# Altium footprint library ADF4350_QFN32.PcbLib: 21 footprints (part 1 of 2)
Each footprint in its own frame and in the unit in brackets; x right, y up, seen from the top. Pads: shape width x height; smd on the part's side, far side on the other; paste and mask are expansions set on the pad; w line width, h text height; cw(c..) or ccw(c..) is an arc to the next point about the centre after c.
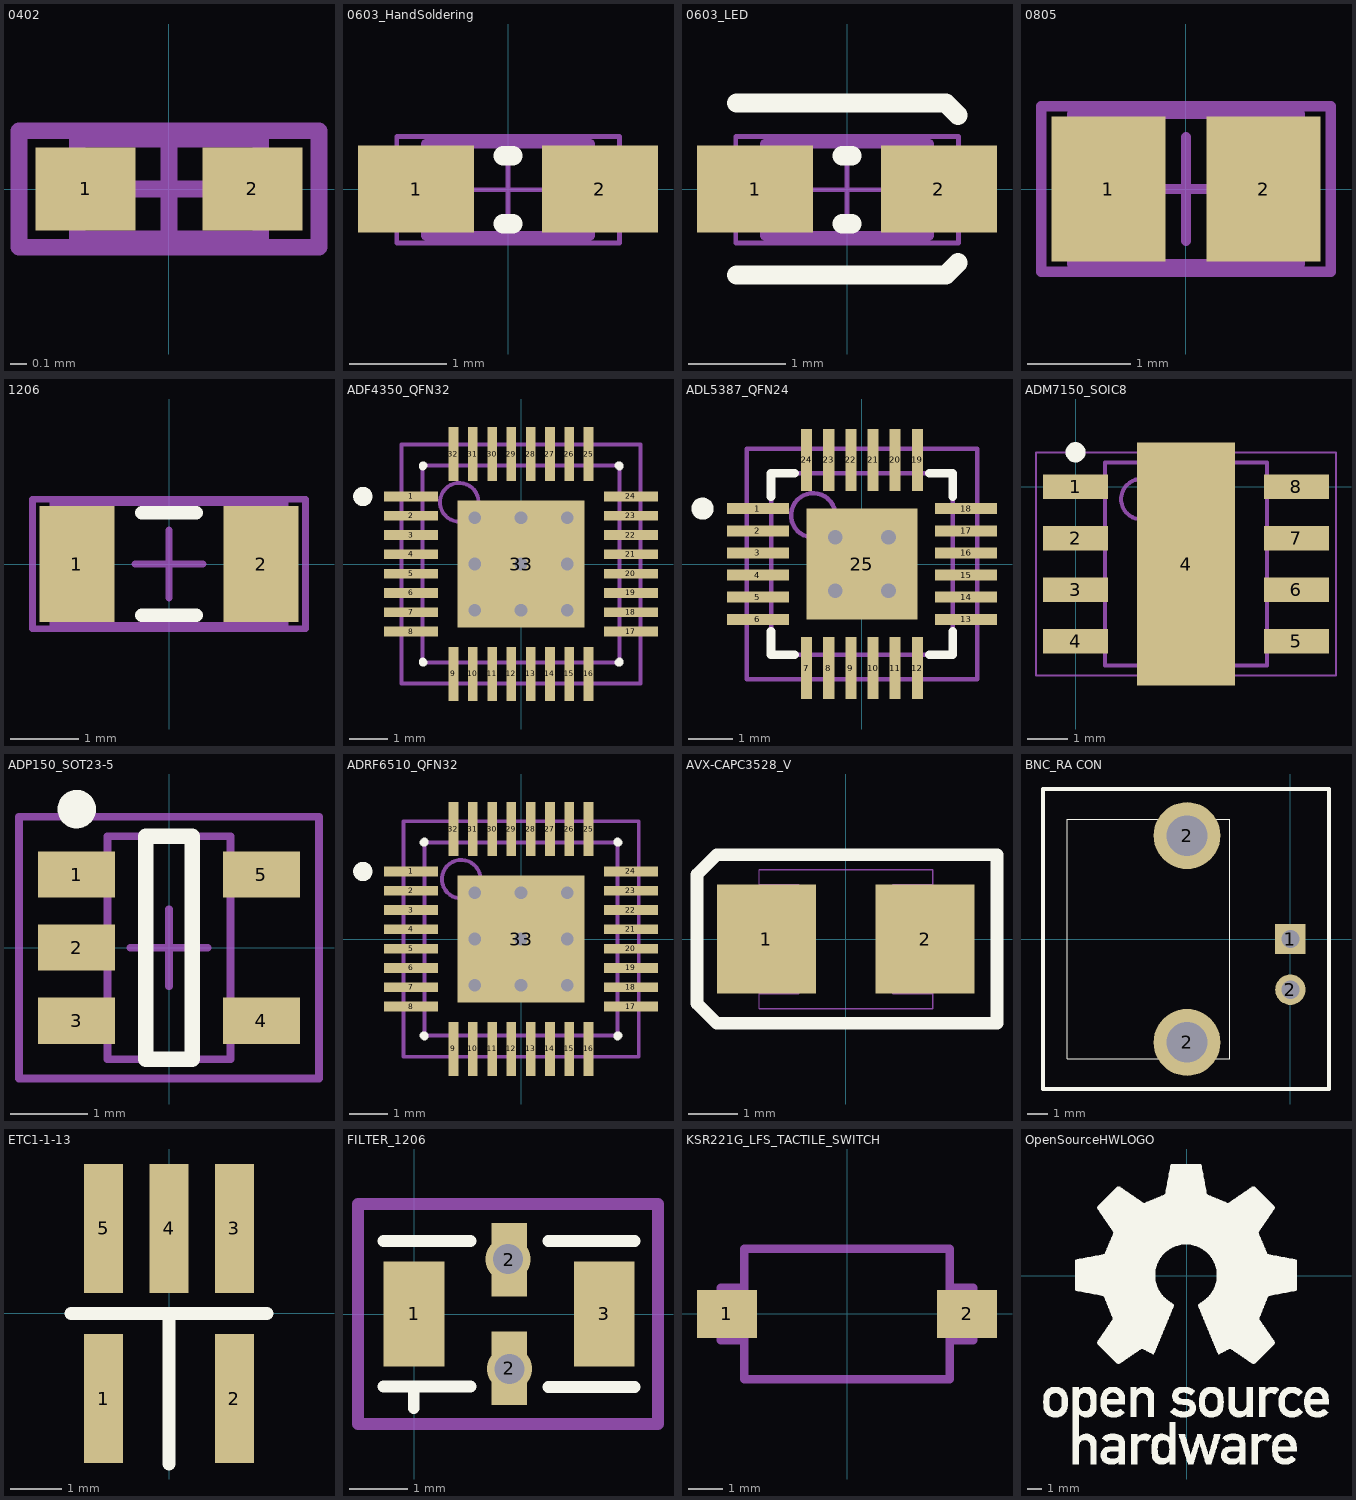
[diagram p0: the footprints below, top view; thin cyan lines are the x and y axes]

## 0402 [mm] "SMD, Body 1.0x0.5mm, IPC High Density"
height 1.3
pads (2):
  rect 0.6x0.5 smd: 1(-0.5,0) 2(0.5,0)
Mechanical 13:
  lines w0.1: -0.55,-0.3 0.55,-0.3 0.55,0.3 -0.55,0.3 -0.55,-0.3
Mechanical 15:
  lines w0.1: -0.3,0 0.3,0 ; 0,-0.3 0,0.3 ; -0.9,-0.35 0.9,-0.35 0.9,0.35 -0.9,0.35 -0.9,-0.35
3D body: height 1.3, standoff 0, extent -0.55,-0.3 0.55,0.3

## 0603_HandSoldering [mm] "SMD, 2-Leads, Body 1.6x0.8mm, IPC Medium Density"
height 0.6
pads (2):
  rect 1.2x0.9 smd: 1(-0.954,0) 2(0.946,0)
Top Overlay:
  lines w0.2: -0.053,-0.358 0.047,-0.358 ; -0.053,0.342 0.047,0.342
Mechanical 13:
  lines w0.1: -0.853,-0.483 -0.853,0.467 0.847,0.467 0.847,-0.483 -0.853,-0.483
Mechanical 15:
  lines w0.05: -0.478,-0.008 0.472,-0.008 ; -0.003,-0.483 -0.003,0.467 ; -1.153,-0.558 -1.153,0.542 1.147,0.542 1.147,-0.558 -1.153,-0.558
3D body: height 0.6, standoff 0, extent 0.578,-0.482 0.847,0.467
3D body: height 0.6, standoff 0, extent -0.583,-0.482 0.578,0.467
3D body: height 0.6, standoff 0, extent -0.852,-0.482 -0.583,0.467

## 0603_LED [mm] "SMD LED, Body 1.6x0.8mm"
height 0.6
pads (2):
  rect 1.2x0.9 smd: 1(-0.954,0) 2(0.946,0)
Top Overlay:
  lines w0.2: -1.143,-0.889 1.016,-0.889 1.143,-0.762 ; -1.143,0.889 1.016,0.889 1.143,0.762 ; -0.053,-0.358 0.047,-0.358 ; -0.053,0.342 0.047,0.342
Mechanical 13:
  lines w0.1: -0.853,-0.483 -0.853,0.467 0.847,0.467 0.847,-0.483 -0.853,-0.483
Mechanical 15:
  lines w0.05: -0.478,-0.008 0.472,-0.008 ; -0.003,-0.483 -0.003,0.467 ; -1.153,-0.558 -1.153,0.542 1.147,0.542 1.147,-0.558 -1.153,-0.558
3D body: height 0.6, standoff 0, extent 0.578,-0.482 0.847,0.467
3D body: height 0.6, standoff 0, extent -0.583,-0.482 0.578,0.467
3D body: height 0.6, standoff 0, extent -0.852,-0.482 -0.583,0.467

## 0805 [mm] "SMD, Body 2.0x1.3mm, IPC High Density"
height 1.4
pads (2):
  rect 1.1x1.4 smd: 1(-0.75,0) 2(0.75,0)
Mechanical 13:
  lines w0.1: -1.1,-0.725 -1.1,0.725 1.1,0.725 1.1,-0.725 -1.1,-0.725
Mechanical 15:
  lines w0.1: -0.5,0 0.5,0 ; 0,-0.5 0,0.5 ; -1.4,-0.8 -1.4,0.8 1.4,0.8 1.4,-0.8 -1.4,-0.8
3D body: height 1.4, standoff 0, extent -1.1,-0.725 1.1,0.725

## 1206 [mm] "SMD, Body 3.2x1.6mm, IPC High Density"
height 1.3
pads (2):
  rect 1.1x1.7 smd: 1(-1.35,0) 2(1.35,0)
Top Overlay:
  lines w0.2: -0.4,-0.75 0.4,-0.75 ; -0.4,0.75 0.4,0.75
Mechanical 13:
  lines w0.1: -1.7,-0.9 -1.7,0.9 1.7,0.9 1.7,-0.9 -1.7,-0.9
Mechanical 15:
  lines w0.1: -0.5,0 0.5,0 ; 0,-0.5 0,0.5 ; -2,-0.95 -2,0.95 2,0.95 2,-0.95 -2,-0.95
3D body: height 1.3, standoff 0, extent -1.7,-0.9 1.7,0.9

## ADF4350_QFN32 [mm] "QFN, 32-Leads, Body 5,1x5,1mm (max), Pitch 0,50mm, IPC Medium Density"
height 0.8
pads (33):
  rect 1.4x0.25 smd: 1(-2.85,1.75) 2(-2.85,1.25) 3(-2.85,0.75) 4(-2.85,0.25) 5(-2.85,-0.25) 6(-2.85,-0.75) 7(-2.85,-1.25) 8(-2.85,-1.75) 17(2.85,-1.75) 18(2.85,-1.25) 19(2.85,-0.75) 20(2.85,-0.25) 21(2.85,0.25) 22(2.85,0.75) 23(2.85,1.25) 24(2.85,1.75)
  rect 0.25x1.4 smd: 9(-1.75,-2.85) 10(-1.25,-2.85) 11(-0.75,-2.85) 12(-0.25,-2.85) 13(0.25,-2.85) 14(0.75,-2.85) 15(1.25,-2.85) 16(1.75,-2.85) 25(1.75,2.85) 26(1.25,2.85) 27(0.75,2.85) 28(0.25,2.85) 29(-0.25,2.85) 30(-0.75,2.85) 31(-1.25,2.85) 32(-1.75,2.85)
  rect 3.3x3.3 smd: 33(0,0)
via -1.2,1.2 diameter 0.66 hole 0.33
via 0,1.2 diameter 0.66 hole 0.33
via 1.2,1.2 diameter 0.66 hole 0.33
via -1.2,0 diameter 0.66 hole 0.33
via 0,0 diameter 0.66 hole 0.33
via 1.2,0 diameter 0.66 hole 0.33
via -1.2,-1.2 diameter 0.66 hole 0.33
via 0,-1.2 diameter 0.66 hole 0.33
via 1.2,-1.2 diameter 0.66 hole 0.33
Top Overlay:
  circle w0.25: c-4.1,1.75 r0.125
  lines w0.2: -2.55,-2.525 -2.55,-2.55 -2.525,-2.55 ; -2.55,2.525 -2.55,2.55 -2.525,2.55 ; 2.525,-2.55 2.55,-2.55 2.55,-2.525 ; 2.525,2.55 2.55,2.55 2.55,2.525
Mechanical 13:
  circle w0.1: c-1.6,1.6 r0.5
  lines w0.1: -2.55,-2.55 -2.55,2.55 2.55,2.55 2.55,-2.55 -2.55,-2.55
Mechanical 15:
  lines w0.1: -0.5,0 0.5,0 ; 0,-0.5 0,0.5 ; -3.1,-3.1 -3.1,3.1 3.1,3.1 3.1,-3.1 -3.1,-3.1
3D body: height 0.8, standoff 0.02, extent -2.55,-2.55 2.55,2.55

## ADL5387_QFN24 [mm] "QFN, 24-Leads, Body 4,1x4,1mm (max), Pitch 0,50mm, IPC Medium Density"
height 0.8
pads (25):
  rect 1.4x0.25 smd: 1(-2.35,1.25) 2(-2.35,0.75) 3(-2.35,0.25) 4(-2.35,-0.25) 5(-2.35,-0.75) 6(-2.35,-1.25) 13(2.35,-1.25) 14(2.35,-0.75) 15(2.35,-0.25) 16(2.35,0.25) 17(2.35,0.75) 18(2.35,1.25)
  rect 0.25x1.4 smd: 7(-1.25,-2.35) 8(-0.75,-2.35) 9(-0.25,-2.35) 10(0.25,-2.35) 11(0.75,-2.35) 12(1.25,-2.35) 19(1.25,2.35) 20(0.75,2.35) 21(0.25,2.35) 22(-0.25,2.35) 23(-0.75,2.35) 24(-1.25,2.35)
  rect 2.5x2.5 smd: 25(0,0)
via -0.6,0.6 diameter 0.66 hole 0.33
via 0.6,0.6 diameter 0.66 hole 0.33
via -0.6,-0.6 diameter 0.66 hole 0.33
via 0.6,-0.6 diameter 0.66 hole 0.33
Top Overlay:
  circle w0.25: c-3.6,1.25 r0.125
  lines w0.2: -2.05,-1.525 -2.05,-2.05 -1.525,-2.05 ; -2.05,1.525 -2.05,2.05 -1.525,2.05 ; 1.525,-2.05 2.05,-2.05 2.05,-1.525 ; 1.525,2.05 2.05,2.05 2.05,1.525
Mechanical 13:
  circle w0.1: c-1.1,1.1 r0.5
  lines w0.1: -2.05,-2.05 -2.05,2.05 2.05,2.05 2.05,-2.05 -2.05,-2.05
Mechanical 15:
  lines w0.1: -0.5,0 0.5,0 ; 0,-0.5 0,0.5 ; -2.6,-2.6 -2.6,2.6 2.6,2.6 2.6,-2.6 -2.6,-2.6
3D body: height 0.8, standoff 0.02, extent -2.05,-2.05 2.05,2.05

## ADM7150_SOIC8 [mm] "SOIC, 8-Leads, Body 4,90x3,90mm, Pitch 1,27mm, Thermal Pad 6,00x2,41mm, IPC Medium Density"
height 1.65
pads (9):
  rect 1.6x0.6 smd: 1(0,0) 2(0,-1.27) 3(0,-2.54) 4(0,-3.81) 5(5.45,-3.81) 6(5.45,-2.54) 7(5.45,-1.27) 8(5.45,0)
  rect 2.41x6 smd: 4(2.725,-1.905)
Top Overlay:
  circle w0.25: c0,0.85 r0.125
Mechanical 13:
  circle w0.1: c1.625,-0.305 r0.5
  lines w0.1: 0.725,-4.405 0.725,0.595 4.725,0.595 4.725,-4.405 0.725,-4.405
Mechanical 15:
  lines w0.05: -0.975,-4.655 -0.975,0.845 6.425,0.845 6.425,-4.655 -0.975,-4.655
  lines w0.1: 2.225,-1.905 3.225,-1.905 ; 2.725,-2.405 2.725,-1.405
3D body: height 1.65, standoff 0.1, extent 0.725,-4.405 4.725,0.595

## ADP150_SOT23-5 [mm] "SOT23, 5-Leads, Body 2,9x2,8mm (max), Pitch 0,95mm, IPC Medium Density"
height 1
pads (5):
  rect 1x0.6 smd: 1(-1.2,0.95) 2(-1.2,0) 3(-1.2,-0.95) 4(1.2,-0.95) 5(1.2,0.95)
Top Overlay:
  circle w0.25: c-1.2,1.8 r0.125
  lines w0.2: -0.3,-1.45 -0.3,1.45 0.3,1.45 0.3,-1.45 -0.3,-1.45
Mechanical 13:
  lines w0.1: -0.8,-1.45 0.8,-1.45 0.8,1.45 -0.8,1.45 -0.8,-1.45
Mechanical 15:
  lines w0.1: -0.5,0 0.5,0 ; 0,-0.5 0,0.5 ; -1.95,-1.7 1.95,-1.7 1.95,1.7 -1.95,1.7 -1.95,-1.7
3D body: height 1, standoff 0.1, extent -0.8,-1.45 0.8,1.45

## ADRF6510_QFN32 [mm] "QFN, 32-Leads, Body 5,0x5,0mm (max), Pitch 0,50mm, IPC Medium Density"
height 1
pads (33):
  rect 1.4x0.25 smd: 1(-2.85,1.75) 2(-2.85,1.25) 3(-2.85,0.75) 4(-2.85,0.25) 5(-2.85,-0.25) 6(-2.85,-0.75) 7(-2.85,-1.25) 8(-2.85,-1.75) 17(2.85,-1.75) 18(2.85,-1.25) 19(2.85,-0.75) 20(2.85,-0.25) 21(2.85,0.25) 22(2.85,0.75) 23(2.85,1.25) 24(2.85,1.75)
  rect 0.25x1.4 smd: 9(-1.75,-2.85) 10(-1.25,-2.85) 11(-0.75,-2.85) 12(-0.25,-2.85) 13(0.25,-2.85) 14(0.75,-2.85) 15(1.25,-2.85) 16(1.75,-2.85) 25(1.75,2.85) 26(1.25,2.85) 27(0.75,2.85) 28(0.25,2.85) 29(-0.25,2.85) 30(-0.75,2.85) 31(-1.25,2.85) 32(-1.75,2.85)
  rect 3.3x3.3 smd: 33(0,0)
via -1.2,1.2 diameter 0.66 hole 0.33
via 0,1.2 diameter 0.66 hole 0.33
via 1.2,1.2 diameter 0.66 hole 0.33
via -1.2,0 diameter 0.66 hole 0.33
via 0,0 diameter 0.66 hole 0.33
via 1.2,0 diameter 0.66 hole 0.33
via -1.2,-1.2 diameter 0.66 hole 0.33
via 0,-1.2 diameter 0.66 hole 0.33
via 1.2,-1.2 diameter 0.66 hole 0.33
Top Overlay:
  circle w0.25: c-4.1,1.75 r0.125
  lines w0.2: -2.525,-2.5 -2.5,-2.5 -2.5,-2.525 ; -2.525,2.5 -2.5,2.5 -2.5,2.525 ; 2.5,-2.525 2.5,-2.5 2.525,-2.5 ; 2.5,2.525 2.5,2.5 2.525,2.5
Mechanical 13:
  circle w0.1: c-1.55,1.55 r0.5
  lines w0.1: -2.5,-2.5 -2.5,2.5 2.5,2.5 2.5,-2.5 -2.5,-2.5
Mechanical 15:
  lines w0.1: -0.5,0 0.5,0 ; 0,-0.5 0,0.5 ; -3.05,-3.05 -3.05,3.05 3.05,3.05 3.05,-3.05 -3.05,-3.05
3D body: height 1, standoff 0.02, extent -2.5,-2.5 2.5,2.5

## AVX-CAPC3528_V [mm] "SMT Capacitor, 2 Leads, Body 3.5x2.8mm"
pads (2):
  rect 2x2.2 smd: 1(-1.6,0) 2(1.6,0)
Top Overlay:
  lines w0.254: -3,-1.3 -3,1.3 -2.6,1.7 3.05,1.7 3.05,-1.7 -2.6,-1.7 -3,-1.3
Mechanical 7:
  lines w0.025: -1.748,-1.404 1.752,-1.404 1.752,1.396 -1.748,1.396 ; -1.748,-1.104 -0.948,-1.104 -0.948,1.096 -1.748,1.096 ; -1.748,-1.404 -1.748,1.396 ; 1.752,-1.104 0.952,-1.104 0.952,1.096 1.752,1.096
3D body: height 1.9, standoff 0, extent -1.704,-1.539 1.763,1.537
3D body: height 0.3, standoff 0, extent 1.578,-0.658 1.803,0.768
3D body: height 0.3, standoff 0, extent -1.793,-0.665 -1.568,0.824

## BNC_RA CON [mm] "Connector; BNC Elbow"
pads (4):
  rect 1.5x1.5 hole 0.9: 1(0,0)
  round 3.3 hole 2: 2(-5.1,-5.1) 2(-5.1,5.1)
  round 1.5 hole 0.9: 2(0,-2.5)
Top Overlay:
  lines w0.025: -12.2,-7.4 1.9,-7.4 1.9,7.4 -12.2,7.4 -12.2,6.25 -12.2,-6.25 -12.2,-7.4 ; -11,-5.9 -3,-5.9 -3,5.9 -11,5.9 -11,-5.9
  lines w0.2: -12.2,-7.4 -12.2,-6.25 -12.2,6.25 -12.2,7.4 1.9,7.4 1.9,-7.4 -12.2,-7.4

## ETC1-1-13 [mm] "E-Series Transformer, RF 1:1, Transmission Line, 4.5 – 3000 MHz"
height 2.75
pads (5):
  rect 0.76x2.5 smd: 1(-1.27,-1.651) 2(1.27,-1.651) 3(1.27,1.651) 4(0,1.651) 5(-1.27,1.651)
Top Overlay:
  lines w0.254: -1.905,0 1.905,0 ; 0,-2.921 0,0
3D body: height 2.75, standoff 0.2, extent -1.905,-2.032 1.905,2.032

## FILTER_1206 [mm]
pads (4):
  rect 1.04x1.8 smd: 1(-0.005,0) 3(3.245,0)
  rect 0.61x1.25 smd: 2(1.62,-0.927) 2(1.62,0.928)
via 1.6,0.94 diameter 0.762 hole 0.508
via 1.626,-0.94 diameter 0.762 hole 0.508
Top Overlay:
  lines w0.2: -0.53,-1.24 -0.01,-1.24 ; -0.53,1.25 0.96,1.25 ; -0.01,-1.61 -0.01,-1.24 ; 0.96,-1.24 -0.01,-1.24 ; 2.29,-1.25 3.77,-1.25 ; 2.29,1.25 3.77,1.25
Mechanical 15:
  lines w0.203: -0.965,-1.88 -0.965,1.88 4.166,1.88 4.166,-1.88 -0.965,-1.88

## KSR221G_LFS_TACTILE_SWITCH [mm] "C & K COMPONENTS  KSR221G LFS  SWITCH, SPST, 0.05A, 32VDC, SMD"
height 2.5
pads (2):
  rect 1.75x1.4 smd: 1(-3.5,0) 2(3.5,0)
Mechanical 3:
  lines w0.254: -3,-1.905 3,-1.9 3,1.9 -3,1.9 -3,-1.9 ; -3,-0.762 -3.683,-0.762 -3.683,0.762 -3,0.762 ; 3,-0.762 3.683,-0.762 3.683,0.762 3,0.762
3D body: height 2.5, standoff 0, extent -1,-1 1,1
3D body: height 1.75, standoff 0, extent -3.175,-2.032 3.175,2.032

## OpenSourceHWLOGO [mm] "OpenSourceHWLOGO"
Top Overlay:
  drawing of 3317 lines, arcs and shapes, not listed